# Altium schematic symbol library ALE12B12.SchLib: 1 symbol
Pins are listed as number, name and electrical type; pins without a type are passive.

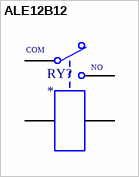
[diagram p0: symbol ALE12B12]

## ALE12B12
designator RY?
Datasheet: http://www.farnell.com/datasheets/2059854.pdf
footprint ALE12B12
pins: 1 3, 2 4, ?1 COM, ?2 NO